# EAGLE library part SW_DPDT_ (library Chromation)
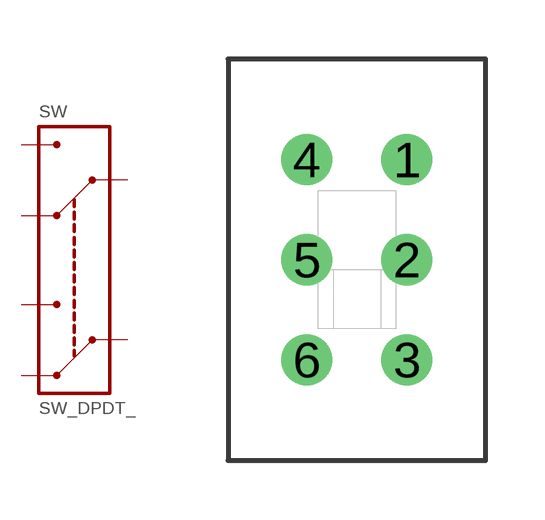
[diagram p13: symbol with the pads of SS22SDP2; footprint SS22SDP2]

Designator prefix SW

## SW_DPDT_SS22SDP2  [SS22SDP2]
1  1
2  2
3  3
4  4
5  5
6  6

## Footprint SS22SDP2 (pad centres in mm)
drill 0.787: 1 1.27,2.54; 2 1.27,0; 3 1.27,-2.54; 4 -1.27,2.54; 5 -1.27,0; 6 -1.27,-2.54